# Altium footprint library W9751G6KB.PcbLib: 1 footprints
Each footprint in its own frame and in the unit in brackets; x right, y up, seen from the top. Pads: shape width x height; smd on the part's side, far side on the other; paste and mask are expansions set on the pad; w line width, h text height; cw(c..) or ccw(c..) is an arc to the next point about the centre after c.
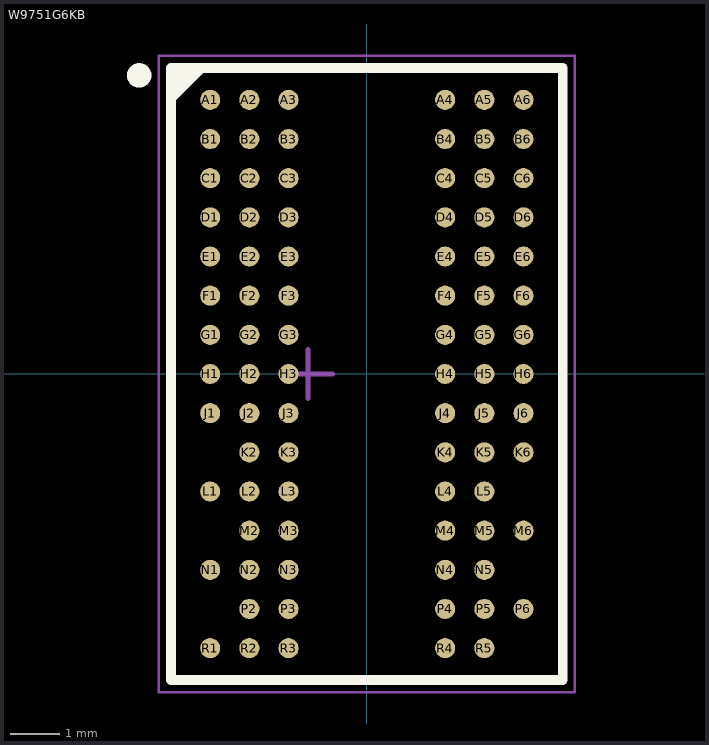
[diagram p0: the footprint, top view; thin cyan lines are the x and y axes]

## W9751G6KB [mm] "DDR2 SDRAM"
height 1.2
pads (84):
  round 0.41 smd: A1(-3.2,5.6) A2(-2.4,5.6) A3(-1.6,5.6) A4(1.6,5.6) A5(2.4,5.6) A6(3.2,5.6) B1(-3.2,4.8) B2(-2.4,4.8) B3(-1.6,4.8) B4(1.6,4.8) B5(2.4,4.8) B6(3.2,4.8) C1(-3.2,4) C2(-2.4,4) C3(-1.6,4) C4(1.6,4) C5(2.4,4) C6(3.2,4) D1(-3.2,3.2) D2(-2.4,3.2) D3(-1.6,3.2) D4(1.6,3.2) D5(2.4,3.2) D6(3.2,3.2) E1(-3.2,2.4) E2(-2.4,2.4) E3(-1.6,2.4) E4(1.6,2.4) E5(2.4,2.4) E6(3.2,2.4) F1(-3.2,1.6) F2(-2.4,1.6) F3(-1.6,1.6) F4(1.6,1.6) F5(2.4,1.6) F6(3.2,1.6) G1(-3.2,0.8) G2(-2.4,0.8) G3(-1.6,0.8) G4(1.6,0.8) G5(2.4,0.8) G6(3.2,0.8) H1(-3.2,0) H2(-2.4,0) H3(-1.6,0) H4(1.6,0) H5(2.4,0) H6(3.2,0) J1(-3.2,-0.8) J2(-2.4,-0.8) J3(-1.6,-0.8) J4(1.6,-0.8) J5(2.4,-0.8) J6(3.2,-0.8) K2(-2.4,-1.6) K3(-1.6,-1.6) K4(1.6,-1.6) K5(2.4,-1.6) K6(3.2,-1.6) L1(-3.2,-2.4) L2(-2.4,-2.4) L3(-1.6,-2.4) L4(1.6,-2.4) L5(2.4,-2.4) M2(-2.4,-3.2) M3(-1.6,-3.2) M4(1.6,-3.2) M5(2.4,-3.2) M6(3.2,-3.2) N1(-3.2,-4) N2(-2.4,-4) N3(-1.6,-4) N4(1.6,-4) N5(2.4,-4) P2(-2.4,-4.8) P3(-1.6,-4.8) P4(1.6,-4.8) P5(2.4,-4.8) P6(3.2,-4.8) R1(-3.2,-5.6) R2(-2.4,-5.6) R3(-1.6,-5.6) R4(1.6,-5.6) R5(2.4,-5.6)
Top Overlay:
  circle w0.25: c-4.65,6.1 r0.125
  region: -3.25,6.25 -4,5.5 -4,6.25
  lines w0.2: -4,-6.25 4,-6.25 4,6.25 -4,6.25 -4,-6.25
Mechanical 13:
  lines w0.1: -4,-6.25 4,-6.25 4,6.25 -4,6.25 -4,-6.25
Mechanical 15:
  lines w0.05: -4.25,-6.5 4.25,-6.5 4.25,6.5 -4.25,6.5 -4.25,-6.5
  lines w0.1: -1.7,0 -0.7,0 ; -1.2,-0.5 -1.2,0.5
3D body: height 1.2, standoff 0.4, extent -4,-6.25 4,6.25